# Altium integrated library TI Data Converters Analog to Digital Converter.IntLib: 2197 symbols (part 119 of 168)
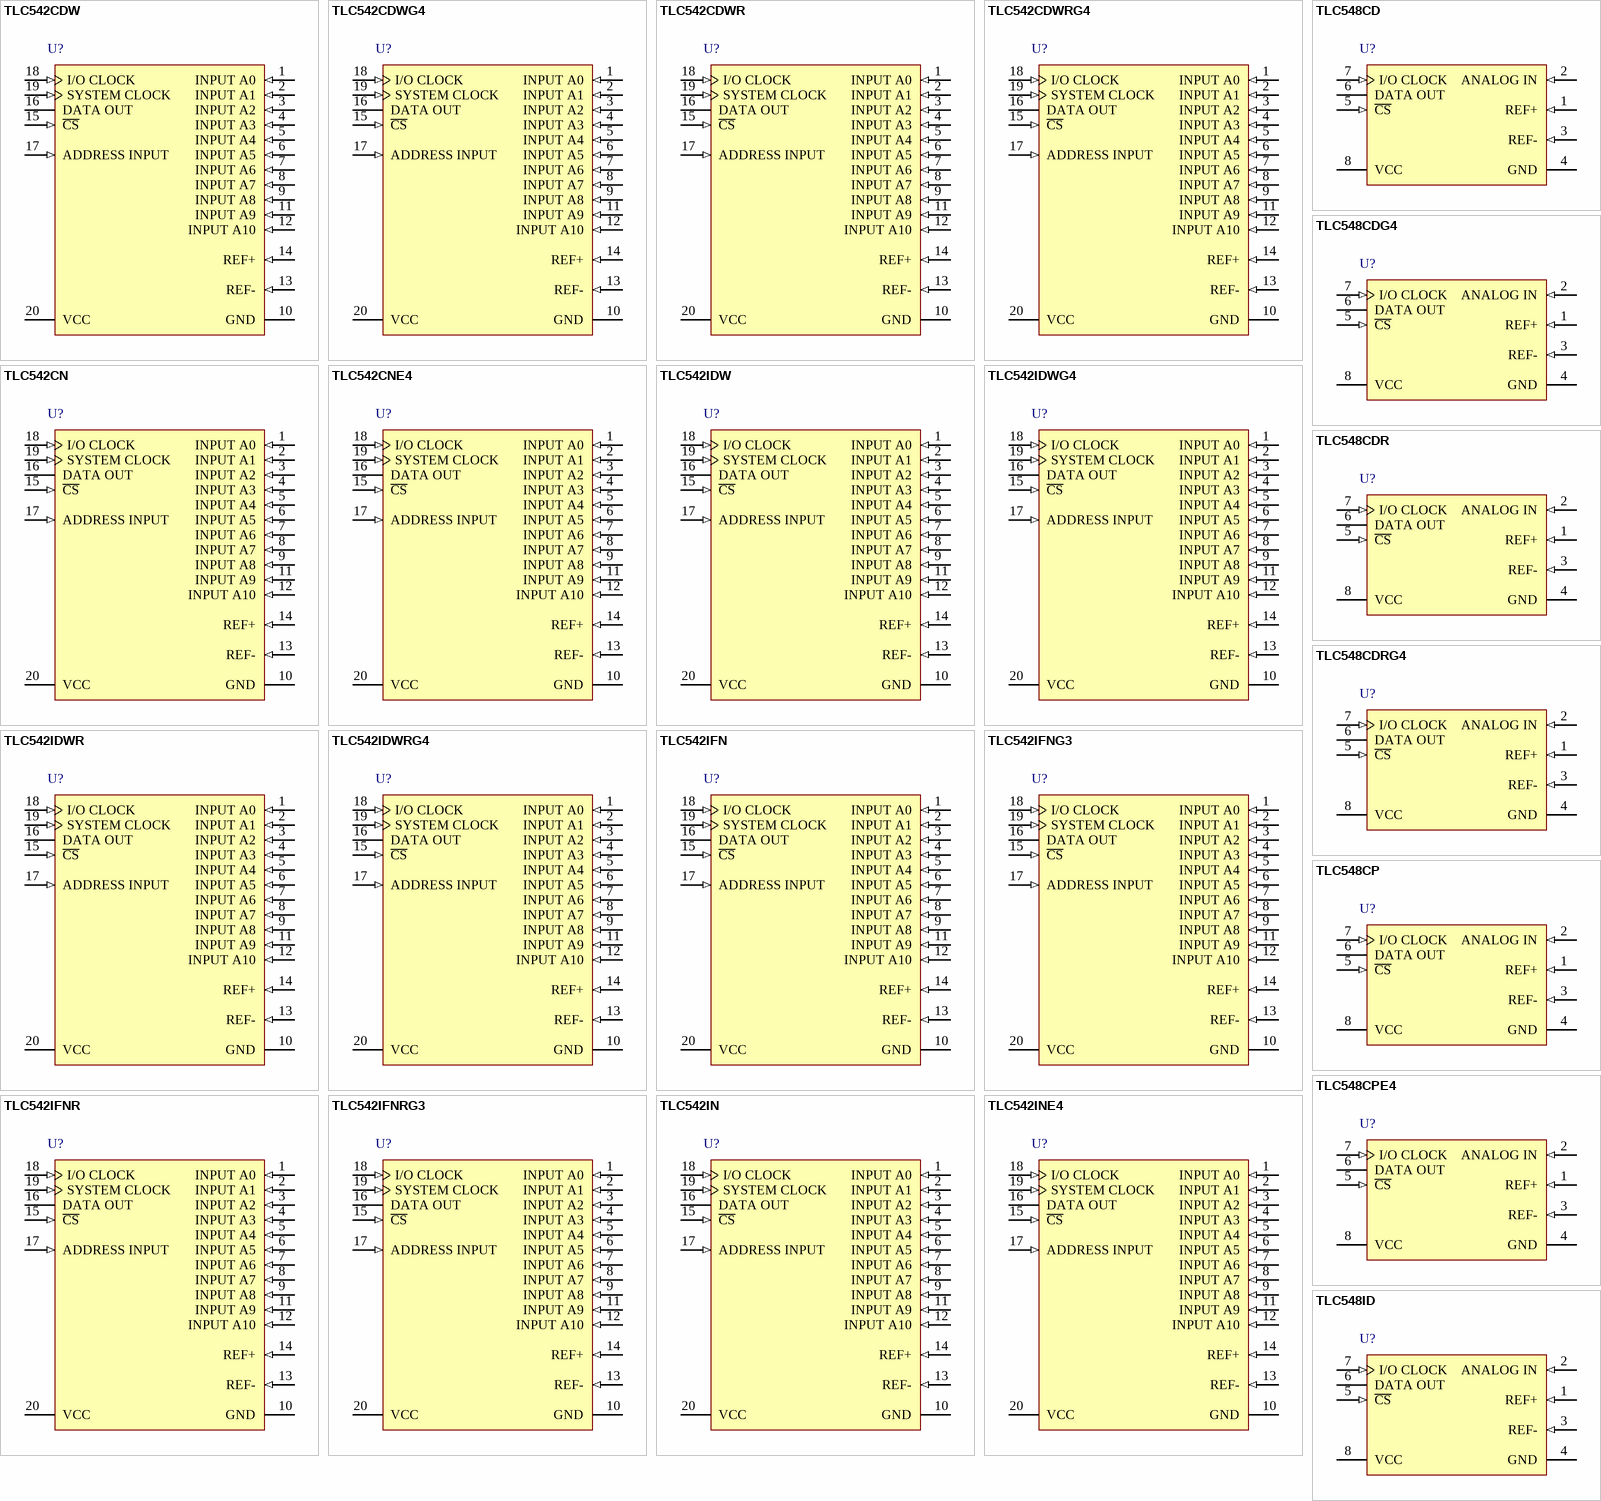
[diagram p244: symbols TLC542CDW to TLC548ID]

## TLC548ID
designator U?
8-Bit, 45.5 kSPS ADC Serial Out, Low Power, Single Channel, -40 to 85 degC, 8-pin SOIC (D8), Green (RoHS & no Sb/Br); Manufacturer: Texas Instruments; PartNumber: TLC548ID; # Input Channels: 1; Analog Voltage AV/DD(Max)(V): 6; Analog Voltage AV/DD(Min)(V): 3; Architecture: SAR; INL(Max)(+/-LSB): 0.5; Interface: Serial SPI; Resolution(Bits): 8; Sample Rate (max)(SPS): 45.5k; SubFamily: Precision ADC (<=10MSPS); DatasheetVersion: SLAS067C; PackageVersion: 4040047-3/M, 06/2011; PackageReference: D8; PackageDescription: 8-Pin Plastic Small Outline, Body 4.9 x 3.9 mm, Pitch 1.27 mm; Supplier 1: Digi-Key; Supplier Part Number 1: TLC540IFNRG3-ND; Supplier 2: Mouser; Supplier Part Number 2: 595-TLC540IFNRG3; Digital Supply(Max)(V): 6; Digital Supply(Min)(V): 3; Eco-Plan: Green (RoHS & no Sb/Br); Mounting Technology: Surface Mount; Code_JEDEC: MS-012; ComponentLink1Description: Manufacturer URL; ComponentLink1URL: http://www.ti.com/; ComponentLink2Description: Datasheet; ComponentLink2URL: http://www.ti.com/general/docs/lit/getliterature.tsp?genericPartNumber=TLC548&fileType=pdf; ComponentLink3Description: Package Specification; ComponentLink3URL: http://www.ti.com/litv/pdf/msoi002j
footprint TI-D8_N (SOIC, 8-Leads, Body 4.9x3.9mm, Pitch 1.27mm, IPC Medium Density)
footprint TI-D8_L (SOIC, 8-Leads, Body 4.9x3.9mm, Pitch 1.27mm, IPC High Density)
footprint TI-D8_M (SOIC, 8-Leads, Body 4.9x3.9mm, Pitch 1.27mm, IPC Low Density)
pins: 1 REF+ (in), 2 ANALOG IN (in), 3 REF- (in), 4 GND (power), 5 ~{CS} (in), 6 DATA OUT (hiz), 7 I/O CLOCK (in), 8 VCC (power)

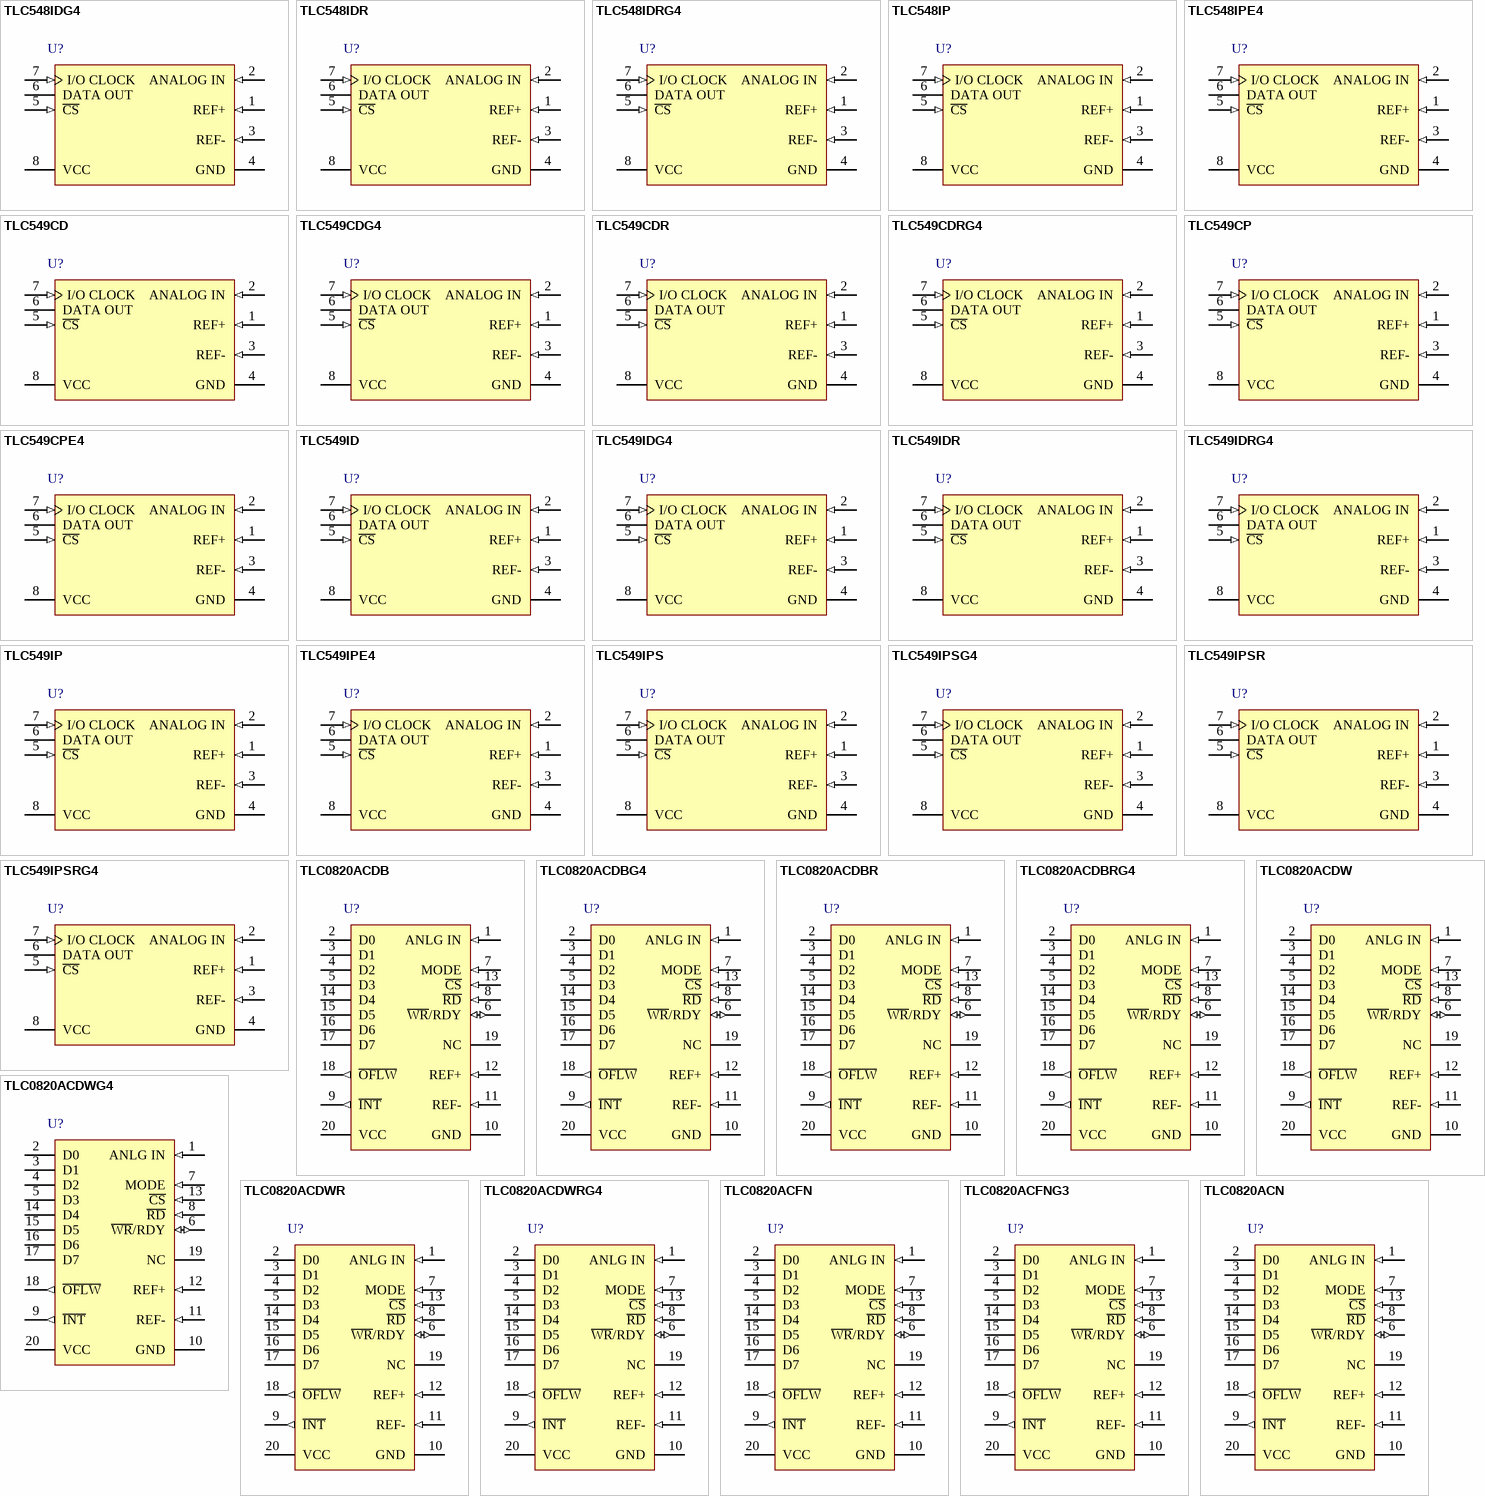
[diagram p102: symbols TLC548IDG4 to TLC0820ACN]

## TLC548IDG4
designator U?
8-Bit, 45.5 kSPS ADC Serial Out, Low Power, Single Channel, -40 to 85 degC, 8-pin SOIC (D8), Green (RoHS & no Sb/Br); Manufacturer: Texas Instruments; PartNumber: TLC548IDG4; # Input Channels: 1; Analog Voltage AV/DD(Max)(V): 6; Analog Voltage AV/DD(Min)(V): 3; Architecture: SAR; INL(Max)(+/-LSB): 0.5; Interface: Serial SPI; Resolution(Bits): 8; Sample Rate (max)(SPS): 45.5k; SubFamily: Precision ADC (<=10MSPS); DatasheetVersion: SLAS067C; PackageVersion: 4040047-3/M, 06/2011; PackageReference: D8; PackageDescription: 8-Pin Plastic Small Outline, Body 4.9 x 3.9 mm, Pitch 1.27 mm; Supplier 1: Digi-Key; Supplier Part Number 1: 296-2921-5-ND; Supplier 2: Mouser; Supplier Part Number 2: 595-TLC540IN; Digital Supply(Max)(V): 6; Digital Supply(Min)(V): 3; Eco-Plan: Green (RoHS & no Sb/Br); Mounting Technology: Surface Mount; Code_JEDEC: MS-012; ComponentLink1Description: Manufacturer URL; ComponentLink1URL: http://www.ti.com/; ComponentLink2Description: Datasheet; ComponentLink2URL: http://www.ti.com/general/docs/lit/getliterature.tsp?genericPartNumber=TLC548&fileType=pdf; ComponentLink3Description: Package Specification; ComponentLink3URL: http://www.ti.com/litv/pdf/msoi002j
footprint TI-D8_N (SOIC, 8-Leads, Body 4.9x3.9mm, Pitch 1.27mm, IPC Medium Density)
footprint TI-D8_L (SOIC, 8-Leads, Body 4.9x3.9mm, Pitch 1.27mm, IPC High Density)
footprint TI-D8_M (SOIC, 8-Leads, Body 4.9x3.9mm, Pitch 1.27mm, IPC Low Density)
pins: 1 REF+ (in), 2 ANALOG IN (in), 3 REF- (in), 4 GND (power), 5 ~{CS} (in), 6 DATA OUT (hiz), 7 I/O CLOCK (in), 8 VCC (power)

## TLC548IDR
designator U?
8-Bit, 45.5 kSPS ADC Serial Out, Low Power, Single Channel, -40 to 85 degC, 8-pin SOIC (D8), Green (RoHS & no Sb/Br); Manufacturer: Texas Instruments; PartNumber: TLC548IDR; # Input Channels: 1; Analog Voltage AV/DD(Max)(V): 6; Analog Voltage AV/DD(Min)(V): 3; Architecture: SAR; INL(Max)(+/-LSB): 0.5; Interface: Serial SPI; Resolution(Bits): 8; Sample Rate (max)(SPS): 45.5k; SubFamily: Precision ADC (<=10MSPS); DatasheetVersion: SLAS067C; PackageVersion: 4040047-3/M, 06/2011; PackageReference: D8; PackageDescription: 8-Pin Plastic Small Outline, Body 4.9 x 3.9 mm, Pitch 1.27 mm; Supplier 1: Digi-Key; Supplier Part Number 1: TLC540INE4-ND; Supplier 2: Mouser; Supplier Part Number 2: 595-TLC540INE4; Digital Supply(Max)(V): 6; Digital Supply(Min)(V): 3; Eco-Plan: Green (RoHS & no Sb/Br); Mounting Technology: Surface Mount; Code_JEDEC: MS-012; ComponentLink1Description: Manufacturer URL; ComponentLink1URL: http://www.ti.com/; ComponentLink2Description: Datasheet; ComponentLink2URL: http://www.ti.com/general/docs/lit/getliterature.tsp?genericPartNumber=TLC548&fileType=pdf; ComponentLink3Description: Package Specification; ComponentLink3URL: http://www.ti.com/litv/pdf/msoi002j
footprint TI-D8_N (SOIC, 8-Leads, Body 4.9x3.9mm, Pitch 1.27mm, IPC Medium Density)
footprint TI-D8_L (SOIC, 8-Leads, Body 4.9x3.9mm, Pitch 1.27mm, IPC High Density)
footprint TI-D8_M (SOIC, 8-Leads, Body 4.9x3.9mm, Pitch 1.27mm, IPC Low Density)
pins: 1 REF+ (in), 2 ANALOG IN (in), 3 REF- (in), 4 GND (power), 5 ~{CS} (in), 6 DATA OUT (hiz), 7 I/O CLOCK (in), 8 VCC (power)

## TLC548IDRG4
designator U?
8-Bit, 45.5 kSPS ADC Serial Out, Low Power, Single Channel, -40 to 85 degC, 8-pin SOIC (D8), Green (RoHS & no Sb/Br); Manufacturer: Texas Instruments; PartNumber: TLC548IDRG4; # Input Channels: 1; Analog Voltage AV/DD(Max)(V): 6; Analog Voltage AV/DD(Min)(V): 3; Architecture: SAR; INL(Max)(+/-LSB): 0.5; Interface: Serial SPI; Resolution(Bits): 8; Sample Rate (max)(SPS): 45.5k; SubFamily: Precision ADC (<=10MSPS); DatasheetVersion: SLAS067C; PackageVersion: 4040047-3/M, 06/2011; PackageReference: D8; PackageDescription: 8-Pin Plastic Small Outline, Body 4.9 x 3.9 mm, Pitch 1.27 mm; Supplier 1: Digi-Key; Supplier Part Number 1: TLV2543CDB-ND; Supplier 2: Newark; Supplier Part Number 2: 76C8344; Supplier 3: Mouser; Supplier Part Number 3: 595-TLV2543CDB; Digital Supply(Max)(V): 6; Digital Supply(Min)(V): 3; Eco-Plan: Green (RoHS & no Sb/Br); Mounting Technology: Surface Mount; Code_JEDEC: MS-012; ComponentLink1Description: Manufacturer URL; ComponentLink1URL: http://www.ti.com/; ComponentLink2Description: Datasheet; ComponentLink2URL: http://www.ti.com/general/docs/lit/getliterature.tsp?genericPartNumber=TLC548&fileType=pdf; ComponentLink3Description: Package Specification; ComponentLink3URL: http://www.ti.com/litv/pdf/msoi002j
footprint TI-D8_N (SOIC, 8-Leads, Body 4.9x3.9mm, Pitch 1.27mm, IPC Medium Density)
footprint TI-D8_L (SOIC, 8-Leads, Body 4.9x3.9mm, Pitch 1.27mm, IPC High Density)
footprint TI-D8_M (SOIC, 8-Leads, Body 4.9x3.9mm, Pitch 1.27mm, IPC Low Density)
pins: 1 REF+ (in), 2 ANALOG IN (in), 3 REF- (in), 4 GND (power), 5 ~{CS} (in), 6 DATA OUT (hiz), 7 I/O CLOCK (in), 8 VCC (power)

## TLC548IP
designator U?
8-Bit, 45.5 kSPS ADC Serial Out, Low Power, Single Channel, -40 to 85 degC, 8-pin DIP (P8), Pb-Free (RoHS); Manufacturer: Texas Instruments; PartNumber: TLC548IP; # Input Channels: 1; Analog Voltage AV/DD(Max)(V): 6; Analog Voltage AV/DD(Min)(V): 3; Architecture: SAR; INL(Max)(+/-LSB): 0.5; Interface: Serial SPI; Resolution(Bits): 8; Sample Rate (max)(SPS): 45.5k; SubFamily: Precision ADC (<=10MSPS); DatasheetVersion: SLAS067C; PackageVersion: 4040082/E, 04/2010; PackageReference: P8; PackageDescription: 8-Pin Plastic In-Line, Body 9.59 x 6.35 mm, Pitch 2.54 mm; Supplier 1: Digi-Key; Supplier Part Number 1: TLV2543CDBG4-ND; Supplier 2: Mouser; Supplier Part Number 2: 595-TLV2543CDBG4; Digital Supply(Max)(V): 6; Digital Supply(Min)(V): 3; Eco-Plan: Pb-Free (RoHS); Mounting Technology: Through Hole; Code_JEDEC: MS-001; ComponentLink1Description: Manufacturer URL; ComponentLink1URL: http://www.ti.com/; ComponentLink2Description: Datasheet; ComponentLink2URL: http://www.ti.com/general/docs/lit/getliterature.tsp?genericPartNumber=TLC548&fileType=pdf; ComponentLink3Description: Package Specification; ComponentLink3URL: http://www.ti.com/litv/pdf/mpdi001b
footprint TI-P8 (DIP, 8-Leads, Body 9.59x6.35mm, Pitch 2.54mm)
pins: 1 REF+ (in), 2 ANALOG IN (in), 3 REF- (in), 4 GND (power), 5 ~{CS} (in), 6 DATA OUT (hiz), 7 I/O CLOCK (in), 8 VCC (power)

## TLC548IPE4
designator U?
8-Bit, 45.5 kSPS ADC Serial Out, Low Power, Single Channel, -40 to 85 degC, 8-pin DIP (P8), Pb-Free (RoHS); Manufacturer: Texas Instruments; PartNumber: TLC548IPE4; # Input Channels: 1; Analog Voltage AV/DD(Max)(V): 6; Analog Voltage AV/DD(Min)(V): 3; Architecture: SAR; INL(Max)(+/-LSB): 0.5; Interface: Serial SPI; Resolution(Bits): 8; Sample Rate (max)(SPS): 45.5k; SubFamily: Precision ADC (<=10MSPS); DatasheetVersion: SLAS067C; PackageVersion: 4040082/E, 04/2010; PackageReference: P8; PackageDescription: 8-Pin Plastic In-Line, Body 9.59 x 6.35 mm, Pitch 2.54 mm; Supplier 1: Digi-Key; Supplier Part Number 1: 296-10643-2-ND; Supplier 2: Digi-Key; Supplier Part Number 2: 296-10643-1-ND; Supplier 3: Digi-Key; Supplier Part Number 3: 296-10643-6-ND; Supplier 4: Mouser; Supplier Part Number 4: 595-TLV2543CDBR; Digital Supply(Max)(V): 6; Digital Supply(Min)(V): 3; Eco-Plan: Pb-Free (RoHS); Mounting Technology: Through Hole; Code_JEDEC: MS-001; ComponentLink1Description: Manufacturer URL; ComponentLink1URL: http://www.ti.com/; ComponentLink2Description: Datasheet; ComponentLink2URL: http://www.ti.com/general/docs/lit/getliterature.tsp?genericPartNumber=TLC548&fileType=pdf; ComponentLink3Description: Package Specification; ComponentLink3URL: http://www.ti.com/litv/pdf/mpdi001b
footprint TI-P8 (DIP, 8-Leads, Body 9.59x6.35mm, Pitch 2.54mm)
pins: 1 REF+ (in), 2 ANALOG IN (in), 3 REF- (in), 4 GND (power), 5 ~{CS} (in), 6 DATA OUT (hiz), 7 I/O CLOCK (in), 8 VCC (power)

## TLC549CD
designator U?
8-Bit, 40 kSPS ADC Serial Out, Low Power, Single Channel, 0 to 70 degC, 8-pin SOIC (D8), Green (RoHS & no Sb/Br); Manufacturer: Texas Instruments; PartNumber: TLC549CD; # Input Channels: 1; Analog Voltage AV/DD(Max)(V): 6; Analog Voltage AV/DD(Min)(V): 3; Architecture: SAR; INL(Max)(+/-LSB): 0.5; Interface: Serial SPI; Resolution(Bits): 8; Sample Rate (max)(SPS): 40k; SubFamily: Precision ADC (<=10MSPS); DatasheetVersion: SLAS067C; PackageVersion: 4040047-3/M, 06/2011; PackageReference: D8; PackageDescription: 8-Pin Plastic Small Outline, Body 4.9 x 3.9 mm, Pitch 1.27 mm; Supplier 1: Digi-Key; Supplier Part Number 1: TLV2543CDBRG4-ND; Supplier 2: Mouser; Supplier Part Number 2: 595-TLV2543CDBRG4; Digital Supply(Max)(V): 6; Digital Supply(Min)(V): 3; Eco-Plan: Green (RoHS & no Sb/Br); Mounting Technology: Surface Mount; Code_JEDEC: MS-012; ComponentLink1Description: Manufacturer URL; ComponentLink1URL: http://www.ti.com/; ComponentLink2Description: Datasheet; ComponentLink2URL: http://www.ti.com/general/docs/lit/getliterature.tsp?genericPartNumber=TLC549&fileType=pdf; ComponentLink3Description: Package Specification; ComponentLink3URL: http://www.ti.com/litv/pdf/msoi002j
footprint TI-D8_N (SOIC, 8-Leads, Body 4.9x3.9mm, Pitch 1.27mm, IPC Medium Density)
footprint TI-D8_L (SOIC, 8-Leads, Body 4.9x3.9mm, Pitch 1.27mm, IPC High Density)
footprint TI-D8_M (SOIC, 8-Leads, Body 4.9x3.9mm, Pitch 1.27mm, IPC Low Density)
pins: 1 REF+ (in), 2 ANALOG IN (in), 3 REF- (in), 4 GND (power), 5 ~{CS} (in), 6 DATA OUT (hiz), 7 I/O CLOCK (in), 8 VCC (power)

## TLC549CDG4
designator U?
8-Bit, 40 kSPS ADC Serial Out, Low Power, Single Channel, 0 to 70 degC, 8-pin SOIC (D8), Green (RoHS & no Sb/Br); Manufacturer: Texas Instruments; PartNumber: TLC549CDG4; # Input Channels: 1; Analog Voltage AV/DD(Max)(V): 6; Analog Voltage AV/DD(Min)(V): 3; Architecture: SAR; INL(Max)(+/-LSB): 0.5; Interface: Serial SPI; Resolution(Bits): 8; Sample Rate (max)(SPS): 40k; SubFamily: Precision ADC (<=10MSPS); DatasheetVersion: SLAS067C; PackageVersion: 4040047-3/M, 06/2011; PackageReference: D8; PackageDescription: 8-Pin Plastic Small Outline, Body 4.9 x 3.9 mm, Pitch 1.27 mm; Supplier 1: Digi-Key; Supplier Part Number 1: 296-2977-5-ND; Supplier 2: Newark; Supplier Part Number 2: 76C8346; Supplier 3: Mouser; Supplier Part Number 3: 595-TLV2543CDW; Digital Supply(Max)(V): 6; Digital Supply(Min)(V): 3; Eco-Plan: Green (RoHS & no Sb/Br); Mounting Technology: Surface Mount; Code_JEDEC: MS-012; ComponentLink1Description: Manufacturer URL; ComponentLink1URL: http://www.ti.com/; ComponentLink2Description: Datasheet; ComponentLink2URL: http://www.ti.com/general/docs/lit/getliterature.tsp?genericPartNumber=TLC549&fileType=pdf; ComponentLink3Description: Package Specification; ComponentLink3URL: http://www.ti.com/litv/pdf/msoi002j
footprint TI-D8_N (SOIC, 8-Leads, Body 4.9x3.9mm, Pitch 1.27mm, IPC Medium Density)
footprint TI-D8_L (SOIC, 8-Leads, Body 4.9x3.9mm, Pitch 1.27mm, IPC High Density)
footprint TI-D8_M (SOIC, 8-Leads, Body 4.9x3.9mm, Pitch 1.27mm, IPC Low Density)
pins: 1 REF+ (in), 2 ANALOG IN (in), 3 REF- (in), 4 GND (power), 5 ~{CS} (in), 6 DATA OUT (hiz), 7 I/O CLOCK (in), 8 VCC (power)

## TLC549CDR
designator U?
8-Bit, 40 kSPS ADC Serial Out, Low Power, Single Channel, 0 to 70 degC, 8-pin SOIC (D8), Green (RoHS & no Sb/Br); Manufacturer: Texas Instruments; PartNumber: TLC549CDR; # Input Channels: 1; Analog Voltage AV/DD(Max)(V): 6; Analog Voltage AV/DD(Min)(V): 3; Architecture: SAR; INL(Max)(+/-LSB): 0.5; Interface: Serial SPI; Resolution(Bits): 8; Sample Rate (max)(SPS): 40k; SubFamily: Precision ADC (<=10MSPS); DatasheetVersion: SLAS067C; PackageVersion: 4040047-3/M, 06/2011; PackageReference: D8; PackageDescription: 8-Pin Plastic Small Outline, Body 4.9 x 3.9 mm, Pitch 1.27 mm; Supplier 1: Digi-Key; Supplier Part Number 1: TLV2543CDWG4-ND; Supplier 2: Mouser; Supplier Part Number 2: 595-TLV2543CDWG4; Digital Supply(Max)(V): 6; Digital Supply(Min)(V): 3; Eco-Plan: Green (RoHS & no Sb/Br); Mounting Technology: Surface Mount; Code_JEDEC: MS-012; ComponentLink1Description: Manufacturer URL; ComponentLink1URL: http://www.ti.com/; ComponentLink2Description: Datasheet; ComponentLink2URL: http://www.ti.com/general/docs/lit/getliterature.tsp?genericPartNumber=TLC549&fileType=pdf; ComponentLink3Description: Package Specification; ComponentLink3URL: http://www.ti.com/litv/pdf/msoi002j
footprint TI-D8_N (SOIC, 8-Leads, Body 4.9x3.9mm, Pitch 1.27mm, IPC Medium Density)
footprint TI-D8_L (SOIC, 8-Leads, Body 4.9x3.9mm, Pitch 1.27mm, IPC High Density)
footprint TI-D8_M (SOIC, 8-Leads, Body 4.9x3.9mm, Pitch 1.27mm, IPC Low Density)
pins: 1 REF+ (in), 2 ANALOG IN (in), 3 REF- (in), 4 GND (power), 5 ~{CS} (in), 6 DATA OUT (hiz), 7 I/O CLOCK (in), 8 VCC (power)

## TLC549CDRG4
designator U?
8-Bit, 40 kSPS ADC Serial Out, Low Power, Single Channel, 0 to 70 degC, 8-pin SOIC (D8), Green (RoHS & no Sb/Br); Manufacturer: Texas Instruments; PartNumber: TLC549CDRG4; # Input Channels: 1; Analog Voltage AV/DD(Max)(V): 6; Analog Voltage AV/DD(Min)(V): 3; Architecture: SAR; INL(Max)(+/-LSB): 0.5; Interface: Serial SPI; Resolution(Bits): 8; Sample Rate (max)(SPS): 40k; SubFamily: Precision ADC (<=10MSPS); DatasheetVersion: SLAS067C; PackageVersion: 4040047-3/M, 06/2011; PackageReference: D8; PackageDescription: 8-Pin Plastic Small Outline, Body 4.9 x 3.9 mm, Pitch 1.27 mm; Supplier 1: Digi-Key; Supplier Part Number 1: TLV2543CDWR-ND; Supplier 2: Mouser; Supplier Part Number 2: 595-TLV2543CDWR; Digital Supply(Max)(V): 6; Digital Supply(Min)(V): 3; Eco-Plan: Green (RoHS & no Sb/Br); Mounting Technology: Surface Mount; Code_JEDEC: MS-012; ComponentLink1Description: Manufacturer URL; ComponentLink1URL: http://www.ti.com/; ComponentLink2Description: Datasheet; ComponentLink2URL: http://www.ti.com/general/docs/lit/getliterature.tsp?genericPartNumber=TLC549&fileType=pdf; ComponentLink3Description: Package Specification; ComponentLink3URL: http://www.ti.com/litv/pdf/msoi002j
footprint TI-D8_N (SOIC, 8-Leads, Body 4.9x3.9mm, Pitch 1.27mm, IPC Medium Density)
footprint TI-D8_L (SOIC, 8-Leads, Body 4.9x3.9mm, Pitch 1.27mm, IPC High Density)
footprint TI-D8_M (SOIC, 8-Leads, Body 4.9x3.9mm, Pitch 1.27mm, IPC Low Density)
pins: 1 REF+ (in), 2 ANALOG IN (in), 3 REF- (in), 4 GND (power), 5 ~{CS} (in), 6 DATA OUT (hiz), 7 I/O CLOCK (in), 8 VCC (power)

## TLC549CP
designator U?
8-Bit, 40 kSPS ADC Serial Out, Low Power, Single Channel, 0 to 70 degC, 8-pin DIP (P8), Pb-Free (RoHS); Manufacturer: Texas Instruments; PartNumber: TLC549CP; # Input Channels: 1; Analog Voltage AV/DD(Max)(V): 6; Analog Voltage AV/DD(Min)(V): 3; Architecture: SAR; INL(Max)(+/-LSB): 0.5; Interface: Serial SPI; Resolution(Bits): 8; Sample Rate (max)(SPS): 40k; SubFamily: Precision ADC (<=10MSPS); DatasheetVersion: SLAS067C; PackageVersion: 4040082/E, 04/2010; PackageReference: P8; PackageDescription: 8-Pin Plastic In-Line, Body 9.59 x 6.35 mm, Pitch 2.54 mm; Supplier 1: Digi-Key; Supplier Part Number 1: TLV2543CDWRG4-ND; Supplier 2: Newark; Supplier Part Number 2: 33K7329; Supplier 3: Mouser; Supplier Part Number 3: 595-TLV2543CDWRG4; Digital Supply(Max)(V): 6; Digital Supply(Min)(V): 3; Eco-Plan: Pb-Free (RoHS); Mounting Technology: Through Hole; Code_JEDEC: MS-001; ComponentLink1Description: Manufacturer URL; ComponentLink1URL: http://www.ti.com/; ComponentLink2Description: Datasheet; ComponentLink2URL: http://www.ti.com/general/docs/lit/getliterature.tsp?genericPartNumber=TLC549&fileType=pdf; ComponentLink3Description: Package Specification; ComponentLink3URL: http://www.ti.com/litv/pdf/mpdi001b
footprint TI-P8 (DIP, 8-Leads, Body 9.59x6.35mm, Pitch 2.54mm)
pins: 1 REF+ (in), 2 ANALOG IN (in), 3 REF- (in), 4 GND (power), 5 ~{CS} (in), 6 DATA OUT (hiz), 7 I/O CLOCK (in), 8 VCC (power)

## TLC549CPE4
designator U?
8-Bit, 40 kSPS ADC Serial Out, Low Power, Single Channel, 0 to 70 degC, 8-pin DIP (P8), Pb-Free (RoHS); Manufacturer: Texas Instruments; PartNumber: TLC549CPE4; # Input Channels: 1; Analog Voltage AV/DD(Max)(V): 6; Analog Voltage AV/DD(Min)(V): 3; Architecture: SAR; INL(Max)(+/-LSB): 0.5; Interface: Serial SPI; Resolution(Bits): 8; Sample Rate (max)(SPS): 40k; SubFamily: Precision ADC (<=10MSPS); DatasheetVersion: SLAS067C; PackageVersion: 4040082/E, 04/2010; PackageReference: P8; PackageDescription: 8-Pin Plastic In-Line, Body 9.59 x 6.35 mm, Pitch 2.54 mm; Supplier 1: Digi-Key; Supplier Part Number 1: 296-2978-5-ND; Supplier 2: Newark; Supplier Part Number 2: 76C8348; Supplier 3: Mouser; Supplier Part Number 3: 595-TLV2543CN; Digital Supply(Max)(V): 6; Digital Supply(Min)(V): 3; Eco-Plan: Pb-Free (RoHS); Mounting Technology: Through Hole; Code_JEDEC: MS-001; ComponentLink1Description: Manufacturer URL; ComponentLink1URL: http://www.ti.com/; ComponentLink2Description: Datasheet; ComponentLink2URL: http://www.ti.com/general/docs/lit/getliterature.tsp?genericPartNumber=TLC549&fileType=pdf; ComponentLink3Description: Package Specification; ComponentLink3URL: http://www.ti.com/litv/pdf/mpdi001b
footprint TI-P8 (DIP, 8-Leads, Body 9.59x6.35mm, Pitch 2.54mm)
pins: 1 REF+ (in), 2 ANALOG IN (in), 3 REF- (in), 4 GND (power), 5 ~{CS} (in), 6 DATA OUT (hiz), 7 I/O CLOCK (in), 8 VCC (power)

## TLC549ID
designator U?
8-Bit, 40 kSPS ADC Serial Out, Low Power, Single Channel, -40 to 85 degC, 8-pin SOIC (D8), Green (RoHS & no Sb/Br); Manufacturer: Texas Instruments; PartNumber: TLC549ID; # Input Channels: 1; Analog Voltage AV/DD(Max)(V): 6; Analog Voltage AV/DD(Min)(V): 3; Architecture: SAR; INL(Max)(+/-LSB): 0.5; Interface: Serial SPI; Resolution(Bits): 8; Sample Rate (max)(SPS): 40k; SubFamily: Precision ADC (<=10MSPS); DatasheetVersion: SLAS067C; PackageVersion: 4040047-3/M, 06/2011; PackageReference: D8; PackageDescription: 8-Pin Plastic Small Outline, Body 4.9 x 3.9 mm, Pitch 1.27 mm; Supplier 1: Digi-Key; Supplier Part Number 1: TLV2543CNE4-ND; Supplier 2: Mouser; Supplier Part Number 2: 595-TLV2543CNE4; Digital Supply(Max)(V): 6; Digital Supply(Min)(V): 3; Eco-Plan: Green (RoHS & no Sb/Br); Mounting Technology: Surface Mount; Code_JEDEC: MS-012; ComponentLink1Description: Manufacturer URL; ComponentLink1URL: http://www.ti.com/; ComponentLink2Description: Datasheet; ComponentLink2URL: http://www.ti.com/general/docs/lit/getliterature.tsp?genericPartNumber=TLC549&fileType=pdf; ComponentLink3Description: Package Specification; ComponentLink3URL: http://www.ti.com/litv/pdf/msoi002j
footprint TI-D8_N (SOIC, 8-Leads, Body 4.9x3.9mm, Pitch 1.27mm, IPC Medium Density)
footprint TI-D8_L (SOIC, 8-Leads, Body 4.9x3.9mm, Pitch 1.27mm, IPC High Density)
footprint TI-D8_M (SOIC, 8-Leads, Body 4.9x3.9mm, Pitch 1.27mm, IPC Low Density)
pins: 1 REF+ (in), 2 ANALOG IN (in), 3 REF- (in), 4 GND (power), 5 ~{CS} (in), 6 DATA OUT (hiz), 7 I/O CLOCK (in), 8 VCC (power)

## TLC549IDG4
designator U?
8-Bit, 40 kSPS ADC Serial Out, Low Power, Single Channel, -40 to 85 degC, 8-pin SOIC (D8), Green (RoHS & no Sb/Br); Manufacturer: Texas Instruments; PartNumber: TLC549IDG4; # Input Channels: 1; Analog Voltage AV/DD(Max)(V): 6; Analog Voltage AV/DD(Min)(V): 3; Architecture: SAR; INL(Max)(+/-LSB): 0.5; Interface: Serial SPI; Resolution(Bits): 8; Sample Rate (max)(SPS): 40k; SubFamily: Precision ADC (<=10MSPS); DatasheetVersion: SLAS067C; PackageVersion: 4040047-3/M, 06/2011; PackageReference: D8; PackageDescription: 8-Pin Plastic Small Outline, Body 4.9 x 3.9 mm, Pitch 1.27 mm; Supplier 1: Digi-Key; Supplier Part Number 1: 296-2201-5-ND; Supplier 2: Newark; Supplier Part Number 2: 97B3440; Supplier 3: Mouser; Supplier Part Number 3: 595-TLV2543IDB; Digital Supply(Max)(V): 6; Digital Supply(Min)(V): 3; Eco-Plan: Green (RoHS & no Sb/Br); Mounting Technology: Surface Mount; Code_JEDEC: MS-012; ComponentLink1Description: Manufacturer URL; ComponentLink1URL: http://www.ti.com/; ComponentLink2Description: Datasheet; ComponentLink2URL: http://www.ti.com/general/docs/lit/getliterature.tsp?genericPartNumber=TLC549&fileType=pdf; ComponentLink3Description: Package Specification; ComponentLink3URL: http://www.ti.com/litv/pdf/msoi002j
footprint TI-D8_N (SOIC, 8-Leads, Body 4.9x3.9mm, Pitch 1.27mm, IPC Medium Density)
footprint TI-D8_L (SOIC, 8-Leads, Body 4.9x3.9mm, Pitch 1.27mm, IPC High Density)
footprint TI-D8_M (SOIC, 8-Leads, Body 4.9x3.9mm, Pitch 1.27mm, IPC Low Density)
pins: 1 REF+ (in), 2 ANALOG IN (in), 3 REF- (in), 4 GND (power), 5 ~{CS} (in), 6 DATA OUT (hiz), 7 I/O CLOCK (in), 8 VCC (power)

## TLC549IDR
designator U?
8-Bit, 40 kSPS ADC Serial Out, Low Power, Single Channel, -40 to 85 degC, 8-pin SOIC (D8), Green (RoHS & no Sb/Br); Manufacturer: Texas Instruments; PartNumber: TLC549IDR; # Input Channels: 1; Analog Voltage AV/DD(Max)(V): 6; Analog Voltage AV/DD(Min)(V): 3; Architecture: SAR; INL(Max)(+/-LSB): 0.5; Interface: Serial SPI; Resolution(Bits): 8; Sample Rate (max)(SPS): 40k; SubFamily: Precision ADC (<=10MSPS); DatasheetVersion: SLAS067C; PackageVersion: 4040047-3/M, 06/2011; PackageReference: D8; PackageDescription: 8-Pin Plastic Small Outline, Body 4.9 x 3.9 mm, Pitch 1.27 mm; Supplier 1: Digi-Key; Supplier Part Number 1: TLV2543IDBG4-ND; Supplier 2: Mouser; Supplier Part Number 2: 595-TLV2543IDBG4; Digital Supply(Max)(V): 6; Digital Supply(Min)(V): 3; Eco-Plan: Green (RoHS & no Sb/Br); Mounting Technology: Surface Mount; Code_JEDEC: MS-012; ComponentLink1Description: Manufacturer URL; ComponentLink1URL: http://www.ti.com/; ComponentLink2Description: Datasheet; ComponentLink2URL: http://www.ti.com/general/docs/lit/getliterature.tsp?genericPartNumber=TLC549&fileType=pdf; ComponentLink3Description: Package Specification; ComponentLink3URL: http://www.ti.com/litv/pdf/msoi002j
footprint TI-D8_N (SOIC, 8-Leads, Body 4.9x3.9mm, Pitch 1.27mm, IPC Medium Density)
footprint TI-D8_L (SOIC, 8-Leads, Body 4.9x3.9mm, Pitch 1.27mm, IPC High Density)
footprint TI-D8_M (SOIC, 8-Leads, Body 4.9x3.9mm, Pitch 1.27mm, IPC Low Density)
pins: 1 REF+ (in), 2 ANALOG IN (in), 3 REF- (in), 4 GND (power), 5 ~{CS} (in), 6 DATA OUT (hiz), 7 I/O CLOCK (in), 8 VCC (power)

## TLC549IDRG4
designator U?
8-Bit, 40 kSPS ADC Serial Out, Low Power, Single Channel, -40 to 85 degC, 8-pin SOIC (D8), Green (RoHS & no Sb/Br); Manufacturer: Texas Instruments; PartNumber: TLC549IDRG4; # Input Channels: 1; Analog Voltage AV/DD(Max)(V): 6; Analog Voltage AV/DD(Min)(V): 3; Architecture: SAR; INL(Max)(+/-LSB): 0.5; Interface: Serial SPI; Resolution(Bits): 8; Sample Rate (max)(SPS): 40k; SubFamily: Precision ADC (<=10MSPS); DatasheetVersion: SLAS067C; PackageVersion: 4040047-3/M, 06/2011; PackageReference: D8; PackageDescription: 8-Pin Plastic Small Outline, Body 4.9 x 3.9 mm, Pitch 1.27 mm; Supplier 1: Digi-Key; Supplier Part Number 1: TLV2543IDBR-ND; Supplier 2: Mouser; Supplier Part Number 2: 595-TLV2543IDBR; Digital Supply(Max)(V): 6; Digital Supply(Min)(V): 3; Eco-Plan: Green (RoHS & no Sb/Br); Mounting Technology: Surface Mount; Code_JEDEC: MS-012; ComponentLink1Description: Manufacturer URL; ComponentLink1URL: http://www.ti.com/; ComponentLink2Description: Datasheet; ComponentLink2URL: http://www.ti.com/general/docs/lit/getliterature.tsp?genericPartNumber=TLC549&fileType=pdf; ComponentLink3Description: Package Specification; ComponentLink3URL: http://www.ti.com/litv/pdf/msoi002j
footprint TI-D8_N (SOIC, 8-Leads, Body 4.9x3.9mm, Pitch 1.27mm, IPC Medium Density)
footprint TI-D8_L (SOIC, 8-Leads, Body 4.9x3.9mm, Pitch 1.27mm, IPC High Density)
footprint TI-D8_M (SOIC, 8-Leads, Body 4.9x3.9mm, Pitch 1.27mm, IPC Low Density)
pins: 1 REF+ (in), 2 ANALOG IN (in), 3 REF- (in), 4 GND (power), 5 ~{CS} (in), 6 DATA OUT (hiz), 7 I/O CLOCK (in), 8 VCC (power)

## TLC549IP
designator U?
8-Bit, 40 kSPS ADC Serial Out, Low Power, Single Channel, -40 to 85 degC, 8-pin DIP (P8), Pb-Free (RoHS); Manufacturer: Texas Instruments; PartNumber: TLC549IP; # Input Channels: 1; Analog Voltage AV/DD(Max)(V): 6; Analog Voltage AV/DD(Min)(V): 3; Architecture: SAR; INL(Max)(+/-LSB): 0.5; Interface: Serial SPI; Resolution(Bits): 8; Sample Rate (max)(SPS): 40k; SubFamily: Precision ADC (<=10MSPS); DatasheetVersion: SLAS067C; PackageVersion: 4040082/E, 04/2010; PackageReference: P8; PackageDescription: 8-Pin Plastic In-Line, Body 9.59 x 6.35 mm, Pitch 2.54 mm; Supplier 1: Digi-Key; Supplier Part Number 1: TLV2543IDBRG4-ND; Supplier 2: Mouser; Supplier Part Number 2: 595-TLV2543IDBRG4; Digital Supply(Max)(V): 6; Digital Supply(Min)(V): 3; Eco-Plan: Pb-Free (RoHS); Mounting Technology: Through Hole; Code_JEDEC: MS-001; ComponentLink1Description: Manufacturer URL; ComponentLink1URL: http://www.ti.com/; ComponentLink2Description: Datasheet; ComponentLink2URL: http://www.ti.com/general/docs/lit/getliterature.tsp?genericPartNumber=TLC549&fileType=pdf; ComponentLink3Description: Package Specification; ComponentLink3URL: http://www.ti.com/litv/pdf/mpdi001b
footprint TI-P8 (DIP, 8-Leads, Body 9.59x6.35mm, Pitch 2.54mm)
pins: 1 REF+ (in), 2 ANALOG IN (in), 3 REF- (in), 4 GND (power), 5 ~{CS} (in), 6 DATA OUT (hiz), 7 I/O CLOCK (in), 8 VCC (power)

## TLC549IPE4
designator U?
8-Bit, 40 kSPS ADC Serial Out, Low Power, Single Channel, -40 to 85 degC, 8-pin DIP (P8), Pb-Free (RoHS); Manufacturer: Texas Instruments; PartNumber: TLC549IPE4; # Input Channels: 1; Analog Voltage AV/DD(Max)(V): 6; Analog Voltage AV/DD(Min)(V): 3; Architecture: SAR; INL(Max)(+/-LSB): 0.5; Interface: Serial SPI; Resolution(Bits): 8; Sample Rate (max)(SPS): 40k; SubFamily: Precision ADC (<=10MSPS); DatasheetVersion: SLAS067C; PackageVersion: 4040082/E, 04/2010; PackageReference: P8; PackageDescription: 8-Pin Plastic In-Line, Body 9.59 x 6.35 mm, Pitch 2.54 mm; Supplier 1: Digi-Key; Supplier Part Number 1: 296-2979-5-ND; Supplier 2: Newark; Supplier Part Number 2: 76C8350; Supplier 3: Mouser; Supplier Part Number 3: 595-TLV2543IDW; Digital Supply(Max)(V): 6; Digital Supply(Min)(V): 3; Eco-Plan: Pb-Free (RoHS); Mounting Technology: Through Hole; Code_JEDEC: MS-001; ComponentLink1Description: Manufacturer URL; ComponentLink1URL: http://www.ti.com/; ComponentLink2Description: Datasheet; ComponentLink2URL: http://www.ti.com/general/docs/lit/getliterature.tsp?genericPartNumber=TLC549&fileType=pdf; ComponentLink3Description: Package Specification; ComponentLink3URL: http://www.ti.com/litv/pdf/mpdi001b
footprint TI-P8 (DIP, 8-Leads, Body 9.59x6.35mm, Pitch 2.54mm)
pins: 1 REF+ (in), 2 ANALOG IN (in), 3 REF- (in), 4 GND (power), 5 ~{CS} (in), 6 DATA OUT (hiz), 7 I/O CLOCK (in), 8 VCC (power)

## TLC549IPS
designator U?
8-Bit, 40 kSPS ADC Serial Out, Low Power, Single Channel, -40 to 85 degC, 8-pin SOIC (PS8), Green (RoHS & no Sb/Br); Manufacturer: Texas Instruments; PartNumber: TLC549IPS; # Input Channels: 1; Analog Voltage AV/DD(Max)(V): 6; Analog Voltage AV/DD(Min)(V): 3; Architecture: SAR; INL(Max)(+/-LSB): 0.5; Interface: Serial SPI; Resolution(Bits): 8; Sample Rate (max)(SPS): 40k; SubFamily: Precision ADC (<=10MSPS); DatasheetVersion: SLAS067C; PackageVersion: 4040063/C, 03/2003; PackageReference: PS8; PackageDescription: 8-Pin Plastic Small Outline, Body 6.2 x 5.3 mm, Pitch 1.27 mm; Supplier 1: Digi-Key; Supplier Part Number 1: TLV2543IDWG4-ND; Supplier 2: Mouser; Supplier Part Number 2: 595-TLV2543IDWG4; Digital Supply(Max)(V): 6; Digital Supply(Min)(V): 3; Eco-Plan: Green (RoHS & no Sb/Br); Mounting Technology: Surface Mount; ComponentLink1Description: Manufacturer URL; ComponentLink1URL: http://www.ti.com/; ComponentLink2Description: Datasheet; ComponentLink2URL: http://www.ti.com/general/docs/lit/getliterature.tsp?genericPartNumber=TLC549&fileType=pdf; ComponentLink3Description: Package Specification; ComponentLink3URL: http://www.ti.com/litv/pdf/msop001a
footprint TI-PS8_N (SOIC, 8-Leads, Body 6.2x5.3mm, Pitch 1.27mm, IPC Medium Density)
footprint TI-PS8_L (SOIC, 8-Leads, Body 6.2x5.3mm, Pitch 1.27mm, IPC High Density)
footprint TI-PS8_M (SOIC, 8-Leads, Body 6.2x5.3mm, Pitch 1.27mm, IPC Low Density)
pins: 1 REF+ (in), 2 ANALOG IN (in), 3 REF- (in), 4 GND (power), 5 ~{CS} (in), 6 DATA OUT (hiz), 7 I/O CLOCK (in), 8 VCC (power)

## TLC549IPSG4
designator U?
8-Bit, 40 kSPS ADC Serial Out, Low Power, Single Channel, -40 to 85 degC, 8-pin SOIC (PS8), Green (RoHS & no Sb/Br); Manufacturer: Texas Instruments; PartNumber: TLC549IPSG4; # Input Channels: 1; Analog Voltage AV/DD(Max)(V): 6; Analog Voltage AV/DD(Min)(V): 3; Architecture: SAR; INL(Max)(+/-LSB): 0.5; Interface: Serial SPI; Resolution(Bits): 8; Sample Rate (max)(SPS): 40k; SubFamily: Precision ADC (<=10MSPS); DatasheetVersion: SLAS067C; PackageVersion: 4040063/C, 03/2003; PackageReference: PS8; PackageDescription: 8-Pin Plastic Small Outline, Body 6.2 x 5.3 mm, Pitch 1.27 mm; Supplier 1: Digi-Key; Supplier Part Number 1: TLV2543IDWR-ND; Supplier 2: Newark; Supplier Part Number 2: 76C8351; Supplier 3: Mouser; Supplier Part Number 3: 595-TLV2543IDWR; Digital Supply(Max)(V): 6; Digital Supply(Min)(V): 3; Eco-Plan: Green (RoHS & no Sb/Br); Mounting Technology: Surface Mount; ComponentLink1Description: Manufacturer URL; ComponentLink1URL: http://www.ti.com/; ComponentLink2Description: Datasheet; ComponentLink2URL: http://www.ti.com/general/docs/lit/getliterature.tsp?genericPartNumber=TLC549&fileType=pdf; ComponentLink3Description: Package Specification; ComponentLink3URL: http://www.ti.com/litv/pdf/msop001a
footprint TI-PS8_N (SOIC, 8-Leads, Body 6.2x5.3mm, Pitch 1.27mm, IPC Medium Density)
footprint TI-PS8_L (SOIC, 8-Leads, Body 6.2x5.3mm, Pitch 1.27mm, IPC High Density)
footprint TI-PS8_M (SOIC, 8-Leads, Body 6.2x5.3mm, Pitch 1.27mm, IPC Low Density)
pins: 1 REF+ (in), 2 ANALOG IN (in), 3 REF- (in), 4 GND (power), 5 ~{CS} (in), 6 DATA OUT (hiz), 7 I/O CLOCK (in), 8 VCC (power)

## TLC549IPSR
designator U?
8-Bit, 40 kSPS ADC Serial Out, Low Power, Single Channel, -40 to 85 degC, 8-pin SOIC (PS8), Green (RoHS & no Sb/Br); Manufacturer: Texas Instruments; PartNumber: TLC549IPSR; # Input Channels: 1; Analog Voltage AV/DD(Max)(V): 6; Analog Voltage AV/DD(Min)(V): 3; Architecture: SAR; INL(Max)(+/-LSB): 0.5; Interface: Serial SPI; Resolution(Bits): 8; Sample Rate (max)(SPS): 40k; SubFamily: Precision ADC (<=10MSPS); DatasheetVersion: SLAS067C; PackageVersion: 4040063/C, 03/2003; PackageReference: PS8; PackageDescription: 8-Pin Plastic Small Outline, Body 6.2 x 5.3 mm, Pitch 1.27 mm; Supplier 1: Digi-Key; Supplier Part Number 1: TLV2543IDWRG4-ND; Supplier 2: Mouser; Supplier Part Number 2: 595-TLV2543IDWRG4; Digital Supply(Max)(V): 6; Digital Supply(Min)(V): 3; Eco-Plan: Green (RoHS & no Sb/Br); Mounting Technology: Surface Mount; ComponentLink1Description: Manufacturer URL; ComponentLink1URL: http://www.ti.com/; ComponentLink2Description: Datasheet; ComponentLink2URL: http://www.ti.com/general/docs/lit/getliterature.tsp?genericPartNumber=TLC549&fileType=pdf; ComponentLink3Description: Package Specification; ComponentLink3URL: http://www.ti.com/litv/pdf/msop001a
footprint TI-PS8_N (SOIC, 8-Leads, Body 6.2x5.3mm, Pitch 1.27mm, IPC Medium Density)
footprint TI-PS8_L (SOIC, 8-Leads, Body 6.2x5.3mm, Pitch 1.27mm, IPC High Density)
footprint TI-PS8_M (SOIC, 8-Leads, Body 6.2x5.3mm, Pitch 1.27mm, IPC Low Density)
pins: 1 REF+ (in), 2 ANALOG IN (in), 3 REF- (in), 4 GND (power), 5 ~{CS} (in), 6 DATA OUT (hiz), 7 I/O CLOCK (in), 8 VCC (power)

## TLC549IPSRG4
designator U?
8-Bit, 40 kSPS ADC Serial Out, Low Power, Single Channel, -40 to 85 degC, 8-pin SOIC (PS8), Green (RoHS & no Sb/Br); Manufacturer: Texas Instruments; PartNumber: TLC549IPSRG4; # Input Channels: 1; Analog Voltage AV/DD(Max)(V): 6; Analog Voltage AV/DD(Min)(V): 3; Architecture: SAR; INL(Max)(+/-LSB): 0.5; Interface: Serial SPI; Resolution(Bits): 8; Sample Rate (max)(SPS): 40k; SubFamily: Precision ADC (<=10MSPS); DatasheetVersion: SLAS067C; PackageVersion: 4040063/C, 03/2003; PackageReference: PS8; PackageDescription: 8-Pin Plastic Small Outline, Body 6.2 x 5.3 mm, Pitch 1.27 mm; Supplier 1: Digi-Key; Supplier Part Number 1: 296-2980-5-ND; Supplier 2: Mouser; Supplier Part Number 2: 595-TLV2543IN; Digital Supply(Max)(V): 6; Digital Supply(Min)(V): 3; Eco-Plan: Green (RoHS & no Sb/Br); Mounting Technology: Surface Mount; ComponentLink1Description: Manufacturer URL; ComponentLink1URL: http://www.ti.com/; ComponentLink2Description: Datasheet; ComponentLink2URL: http://www.ti.com/general/docs/lit/getliterature.tsp?genericPartNumber=TLC549&fileType=pdf; ComponentLink3Description: Package Specification; ComponentLink3URL: http://www.ti.com/litv/pdf/msop001a
footprint TI-PS8_N (SOIC, 8-Leads, Body 6.2x5.3mm, Pitch 1.27mm, IPC Medium Density)
footprint TI-PS8_L (SOIC, 8-Leads, Body 6.2x5.3mm, Pitch 1.27mm, IPC High Density)
footprint TI-PS8_M (SOIC, 8-Leads, Body 6.2x5.3mm, Pitch 1.27mm, IPC Low Density)
pins: 1 REF+ (in), 2 ANALOG IN (in), 3 REF- (in), 4 GND (power), 5 ~{CS} (in), 6 DATA OUT (hiz), 7 I/O CLOCK (in), 8 VCC (power)

## TLC0820ACDB
designator U?
8-Bit, 392 kSPS ADC Parallel Out, Microprocessor Peripheral, On-Chip Track-and-Hold, Single Channel, 0 to 70 degC, 20-pin SOP (DB20), Green (RoHS & no Sb/Br); Manufacturer: Texas Instruments; PartNumber: TLC0820ACDB; # Input Channels: 1; Analog Voltage AV/DD(Max)(V): 8; Analog Voltage AV/DD(Min)(V): 4.5; Architecture: SAR; Interface: Parallel CMOS; Sample Rate (max)(SPS): 392k; SubFamily: Precision ADC (<=10MSPS); DatasheetVersion: SLAS064A; PackageVersion: 4040065/E, 12/2001; PackageReference: DB20; PackageDescription: 20-Pin Plastic Small Outline, Body 5.3 x 7.2 mm, Pitch 0.65 mm; Supplier 1: Digi-Key; Supplier Part Number 1: TLV2543INE4-ND; Supplier 2: Mouser; Supplier Part Number 2: 595-TLV2543INE4; Digital Supply(Max)(V): 8; Digital Supply(Min)(V): 4.5; Eco-Plan: Green (RoHS & no Sb/Br); Resolution(Bits): 8; Mounting Technology: Surface Mount; Code_JEDEC: MO-150; ComponentLink1Description: Manufacturer URL; ComponentLink1URL: http://www.ti.com/; ComponentLink2Description: Datasheet; ComponentLink2URL: http://www.ti.com/general/docs/lit/getliterature.tsp?genericPartNumber=TLC0820A&fileType=pdf; ComponentLink3Description: Package Specification; ComponentLink3URL: http://www.ti.com/lit/ml/msso002e/msso002e.pdf
footprint TI-DB20_N (SOP, 20-Leads, Body 7.2x5.3mm, Pitch 0.65mm, IPC Medium Density)
footprint TI-DB20_L (SOP, 20-Leads, Body 7.2x5.3mm, Pitch 0.65mm, IPC High Density)
footprint TI-DB20_M (SOP, 20-Leads, Body 7.2x5.3mm, Pitch 0.65mm, IPC Low Density)
pins: 1 ANLG IN (in) "Analog input", 2 D0 (hiz) "Digital, 3-state output data, bit 1 (LSB)", 3 D1 (hiz) "Digital, 3-state output data, bit 2", 4 D2 (hiz) "Digital, 3-state output data, bit 3", 5 D3 (hiz) "Digital, 3-state output data, bit 4", 6 ~{WR}/RDY (io) "Write ready. In the write-read mode with C\S\ low, the conversion is started on the falling edge of the W\R\ input signal. The result of the conversion is strobed into the output latch after the internal count-down delay (See Datasheet)", 7 MODE (in) "Mode select. MODE is internally tied to GND through a 50-uA current source, which acts like a pulldown resistor.When MODE is low, the read mode is selected. When MODE is high, the write-read mode is selected.", 8 ~{RD} (in) "Read. In the write-read mode with C\S\ low, the 3-state data outputs D0 through D7 are activated when R\D\ goes low. R\D\ can also be used to increase the conversion speed by reading data prior to the end of the internal (See Datasheet)", 9 ~{INT} (out) "Interrupt. In the write-read mode, the interrupt output (I\N\T\) going low indicates that the internal count-down delay time, td(int), is complete and the data result is in the output latch. The delay time td(int) is (See Datasheet)", 10 GND (power) "Ground", 11 REF- (in) "Reference voltage. REF- is placed on the bottom of the resistor ladder.", 12 REF+ (in) "Reference voltage. REF+ is placed on the top of the resistor ladder.", 13 ~{CS} (in) "Chip select. C\S\ must be low in order for R\D\ or W\R\ to be recognized by the ADC.", 14 D4 (hiz) "Digital, 3-state output data, bit 5", 15 D5 (hiz) "Digital, 3-state output data, bit 6", 16 D6 (hiz) "Digital, 3-state output data, bit 7", 17 D7 (hiz) "Digital, 3-state output data, bit 8 (MSB)", 18 ~{OFLW} (out) "Overflow. Normally O\F\L\W\ is a logical high. However, if the analog input is higher than Vref+, O\F\L\W\ will be low at the end of conversion. It can be used to cascade two or more devices to improve resolution (9 or 10 (See Datasheet)", 19 NC "No internal connection", 20 VCC (power) "Power supply voltage"

## TLC0820ACDBG4
designator U?
8-Bit, 392 kSPS ADC Parallel Out, Microprocessor Peripheral, On-Chip Track-and-Hold, Single Channel, 0 to 70 degC, 20-pin SOP (DB20), Green (RoHS & no Sb/Br); Manufacturer: Texas Instruments; PartNumber: TLC0820ACDBG4; # Input Channels: 1; Analog Voltage AV/DD(Max)(V): 8; Analog Voltage AV/DD(Min)(V): 4.5; Architecture: SAR; Interface: Parallel CMOS; Sample Rate (max)(SPS): 392k; SubFamily: Precision ADC (<=10MSPS); DatasheetVersion: SLAS064A; PackageVersion: 4040065/E, 12/2001; PackageReference: DB20; PackageDescription: 20-Pin Plastic Small Outline, Body 5.3 x 7.2 mm, Pitch 0.65 mm; Supplier 1: Digi-Key; Supplier Part Number 1: 296-2897-5-ND; Supplier 2: Farnell; Supplier Part Number 2: 1459350; Supplier 3: Mouser; Supplier Part Number 3: 595-TLC2543CDB; Digital Supply(Max)(V): 8; Digital Supply(Min)(V): 4.5; Eco-Plan: Green (RoHS & no Sb/Br); Resolution(Bits): 8; Mounting Technology: Surface Mount; Code_JEDEC: MO-150; ComponentLink1Description: Manufacturer URL; ComponentLink1URL: http://www.ti.com/; ComponentLink2Description: Datasheet; ComponentLink2URL: http://www.ti.com/general/docs/lit/getliterature.tsp?genericPartNumber=TLC0820A&fileType=pdf; ComponentLink3Description: Package Specification; ComponentLink3URL: http://www.ti.com/lit/ml/msso002e/msso002e.pdf
footprint TI-DB20_N (SOP, 20-Leads, Body 7.2x5.3mm, Pitch 0.65mm, IPC Medium Density)
footprint TI-DB20_L (SOP, 20-Leads, Body 7.2x5.3mm, Pitch 0.65mm, IPC High Density)
footprint TI-DB20_M (SOP, 20-Leads, Body 7.2x5.3mm, Pitch 0.65mm, IPC Low Density)
pins: 1 ANLG IN (in) "Analog input", 2 D0 (hiz) "Digital, 3-state output data, bit 1 (LSB)", 3 D1 (hiz) "Digital, 3-state output data, bit 2", 4 D2 (hiz) "Digital, 3-state output data, bit 3", 5 D3 (hiz) "Digital, 3-state output data, bit 4", 6 ~{WR}/RDY (io) "Write ready. In the write-read mode with C\S\ low, the conversion is started on the falling edge of the W\R\ input signal. The result of the conversion is strobed into the output latch after the internal count-down delay (See Datasheet)", 7 MODE (in) "Mode select. MODE is internally tied to GND through a 50-uA current source, which acts like a pulldown resistor.When MODE is low, the read mode is selected. When MODE is high, the write-read mode is selected.", 8 ~{RD} (in) "Read. In the write-read mode with C\S\ low, the 3-state data outputs D0 through D7 are activated when R\D\ goes low. R\D\ can also be used to increase the conversion speed by reading data prior to the end of the internal (See Datasheet)", 9 ~{INT} (out) "Interrupt. In the write-read mode, the interrupt output (I\N\T\) going low indicates that the internal count-down delay time, td(int), is complete and the data result is in the output latch. The delay time td(int) is (See Datasheet)", 10 GND (power) "Ground", 11 REF- (in) "Reference voltage. REF- is placed on the bottom of the resistor ladder.", 12 REF+ (in) "Reference voltage. REF+ is placed on the top of the resistor ladder.", 13 ~{CS} (in) "Chip select. C\S\ must be low in order for R\D\ or W\R\ to be recognized by the ADC.", 14 D4 (hiz) "Digital, 3-state output data, bit 5", 15 D5 (hiz) "Digital, 3-state output data, bit 6", 16 D6 (hiz) "Digital, 3-state output data, bit 7", 17 D7 (hiz) "Digital, 3-state output data, bit 8 (MSB)", 18 ~{OFLW} (out) "Overflow. Normally O\F\L\W\ is a logical high. However, if the analog input is higher than Vref+, O\F\L\W\ will be low at the end of conversion. It can be used to cascade two or more devices to improve resolution (9 or 10 (See Datasheet)", 19 NC "No internal connection", 20 VCC (power) "Power supply voltage"

## TLC0820ACDBR
designator U?
8-Bit, 392 kSPS ADC Parallel Out, Microprocessor Peripheral, On-Chip Track-and-Hold, Single Channel, 0 to 70 degC, 20-pin SOP (DB20), Green (RoHS & no Sb/Br); Manufacturer: Texas Instruments; PartNumber: TLC0820ACDBR; # Input Channels: 1; Analog Voltage AV/DD(Max)(V): 8; Analog Voltage AV/DD(Min)(V): 4.5; Architecture: SAR; Interface: Parallel CMOS; Sample Rate (max)(SPS): 392k; SubFamily: Precision ADC (<=10MSPS); DatasheetVersion: SLAS064A; PackageVersion: 4040065/E, 12/2001; PackageReference: DB20; PackageDescription: 20-Pin Plastic Small Outline, Body 5.3 x 7.2 mm, Pitch 0.65 mm; Supplier 1: Digi-Key; Supplier Part Number 1: TLC2543CDBG4-ND; Supplier 2: Mouser; Supplier Part Number 2: 595-TLC2543CDBG4; Digital Supply(Max)(V): 8; Digital Supply(Min)(V): 4.5; Eco-Plan: Green (RoHS & no Sb/Br); Resolution(Bits): 8; Mounting Technology: Surface Mount; Code_JEDEC: MO-150; ComponentLink1Description: Manufacturer URL; ComponentLink1URL: http://www.ti.com/; ComponentLink2Description: Datasheet; ComponentLink2URL: http://www.ti.com/general/docs/lit/getliterature.tsp?genericPartNumber=TLC0820A&fileType=pdf; ComponentLink3Description: Package Specification; ComponentLink3URL: http://www.ti.com/lit/ml/msso002e/msso002e.pdf
footprint TI-DB20_N (SOP, 20-Leads, Body 7.2x5.3mm, Pitch 0.65mm, IPC Medium Density)
footprint TI-DB20_L (SOP, 20-Leads, Body 7.2x5.3mm, Pitch 0.65mm, IPC High Density)
footprint TI-DB20_M (SOP, 20-Leads, Body 7.2x5.3mm, Pitch 0.65mm, IPC Low Density)
pins: 1 ANLG IN (in) "Analog input", 2 D0 (hiz) "Digital, 3-state output data, bit 1 (LSB)", 3 D1 (hiz) "Digital, 3-state output data, bit 2", 4 D2 (hiz) "Digital, 3-state output data, bit 3", 5 D3 (hiz) "Digital, 3-state output data, bit 4", 6 ~{WR}/RDY (io) "Write ready. In the write-read mode with C\S\ low, the conversion is started on the falling edge of the W\R\ input signal. The result of the conversion is strobed into the output latch after the internal count-down delay (See Datasheet)", 7 MODE (in) "Mode select. MODE is internally tied to GND through a 50-uA current source, which acts like a pulldown resistor.When MODE is low, the read mode is selected. When MODE is high, the write-read mode is selected.", 8 ~{RD} (in) "Read. In the write-read mode with C\S\ low, the 3-state data outputs D0 through D7 are activated when R\D\ goes low. R\D\ can also be used to increase the conversion speed by reading data prior to the end of the internal (See Datasheet)", 9 ~{INT} (out) "Interrupt. In the write-read mode, the interrupt output (I\N\T\) going low indicates that the internal count-down delay time, td(int), is complete and the data result is in the output latch. The delay time td(int) is (See Datasheet)", 10 GND (power) "Ground", 11 REF- (in) "Reference voltage. REF- is placed on the bottom of the resistor ladder.", 12 REF+ (in) "Reference voltage. REF+ is placed on the top of the resistor ladder.", 13 ~{CS} (in) "Chip select. C\S\ must be low in order for R\D\ or W\R\ to be recognized by the ADC.", 14 D4 (hiz) "Digital, 3-state output data, bit 5", 15 D5 (hiz) "Digital, 3-state output data, bit 6", 16 D6 (hiz) "Digital, 3-state output data, bit 7", 17 D7 (hiz) "Digital, 3-state output data, bit 8 (MSB)", 18 ~{OFLW} (out) "Overflow. Normally O\F\L\W\ is a logical high. However, if the analog input is higher than Vref+, O\F\L\W\ will be low at the end of conversion. It can be used to cascade two or more devices to improve resolution (9 or 10 (See Datasheet)", 19 NC "No internal connection", 20 VCC (power) "Power supply voltage"

## TLC0820ACDBRG4
designator U?
8-Bit, 392 kSPS ADC Parallel Out, Microprocessor Peripheral, On-Chip Track-and-Hold, Single Channel, 0 to 70 degC, 20-pin SOP (DB20), Green (RoHS & no Sb/Br); Manufacturer: Texas Instruments; PartNumber: TLC0820ACDBRG4; # Input Channels: 1; Analog Voltage AV/DD(Max)(V): 8; Analog Voltage AV/DD(Min)(V): 4.5; Architecture: SAR; Interface: Parallel CMOS; Sample Rate (max)(SPS): 392k; SubFamily: Precision ADC (<=10MSPS); DatasheetVersion: SLAS064A; PackageVersion: 4040065/E, 12/2001; PackageReference: DB20; PackageDescription: 20-Pin Plastic Small Outline, Body 5.3 x 7.2 mm, Pitch 0.65 mm; Supplier 1: Digi-Key; Supplier Part Number 1: TLC2543CDBR-ND; Supplier 2: Newark; Supplier Part Number 2: 76C6986; Supplier 3: Mouser; Supplier Part Number 3: 595-TLC2543CDBR; Digital Supply(Max)(V): 8; Digital Supply(Min)(V): 4.5; Eco-Plan: Green (RoHS & no Sb/Br); Resolution(Bits): 8; Mounting Technology: Surface Mount; Code_JEDEC: MO-150; ComponentLink1Description: Manufacturer URL; ComponentLink1URL: http://www.ti.com/; ComponentLink2Description: Datasheet; ComponentLink2URL: http://www.ti.com/general/docs/lit/getliterature.tsp?genericPartNumber=TLC0820A&fileType=pdf; ComponentLink3Description: Package Specification; ComponentLink3URL: http://www.ti.com/lit/ml/msso002e/msso002e.pdf
footprint TI-DB20_N (SOP, 20-Leads, Body 7.2x5.3mm, Pitch 0.65mm, IPC Medium Density)
footprint TI-DB20_L (SOP, 20-Leads, Body 7.2x5.3mm, Pitch 0.65mm, IPC High Density)
footprint TI-DB20_M (SOP, 20-Leads, Body 7.2x5.3mm, Pitch 0.65mm, IPC Low Density)
pins: 1 ANLG IN (in) "Analog input", 2 D0 (hiz) "Digital, 3-state output data, bit 1 (LSB)", 3 D1 (hiz) "Digital, 3-state output data, bit 2", 4 D2 (hiz) "Digital, 3-state output data, bit 3", 5 D3 (hiz) "Digital, 3-state output data, bit 4", 6 ~{WR}/RDY (io) "Write ready. In the write-read mode with C\S\ low, the conversion is started on the falling edge of the W\R\ input signal. The result of the conversion is strobed into the output latch after the internal count-down delay (See Datasheet)", 7 MODE (in) "Mode select. MODE is internally tied to GND through a 50-uA current source, which acts like a pulldown resistor.When MODE is low, the read mode is selected. When MODE is high, the write-read mode is selected.", 8 ~{RD} (in) "Read. In the write-read mode with C\S\ low, the 3-state data outputs D0 through D7 are activated when R\D\ goes low. R\D\ can also be used to increase the conversion speed by reading data prior to the end of the internal (See Datasheet)", 9 ~{INT} (out) "Interrupt. In the write-read mode, the interrupt output (I\N\T\) going low indicates that the internal count-down delay time, td(int), is complete and the data result is in the output latch. The delay time td(int) is (See Datasheet)", 10 GND (power) "Ground", 11 REF- (in) "Reference voltage. REF- is placed on the bottom of the resistor ladder.", 12 REF+ (in) "Reference voltage. REF+ is placed on the top of the resistor ladder.", 13 ~{CS} (in) "Chip select. C\S\ must be low in order for R\D\ or W\R\ to be recognized by the ADC.", 14 D4 (hiz) "Digital, 3-state output data, bit 5", 15 D5 (hiz) "Digital, 3-state output data, bit 6", 16 D6 (hiz) "Digital, 3-state output data, bit 7", 17 D7 (hiz) "Digital, 3-state output data, bit 8 (MSB)", 18 ~{OFLW} (out) "Overflow. Normally O\F\L\W\ is a logical high. However, if the analog input is higher than Vref+, O\F\L\W\ will be low at the end of conversion. It can be used to cascade two or more devices to improve resolution (9 or 10 (See Datasheet)", 19 NC "No internal connection", 20 VCC (power) "Power supply voltage"